# Altium footprint library FootprintsStd.PcbLib: 32 footprints (part 1 of 2)
Each footprint in its own frame and in the unit in brackets; x right, y up, seen from the top. Pads: shape width x height; smd on the part's side, far side on the other; paste and mask are expansions set on the pad; w line width, h text height; cw(c..) or ccw(c..) is an arc to the next point about the centre after c.
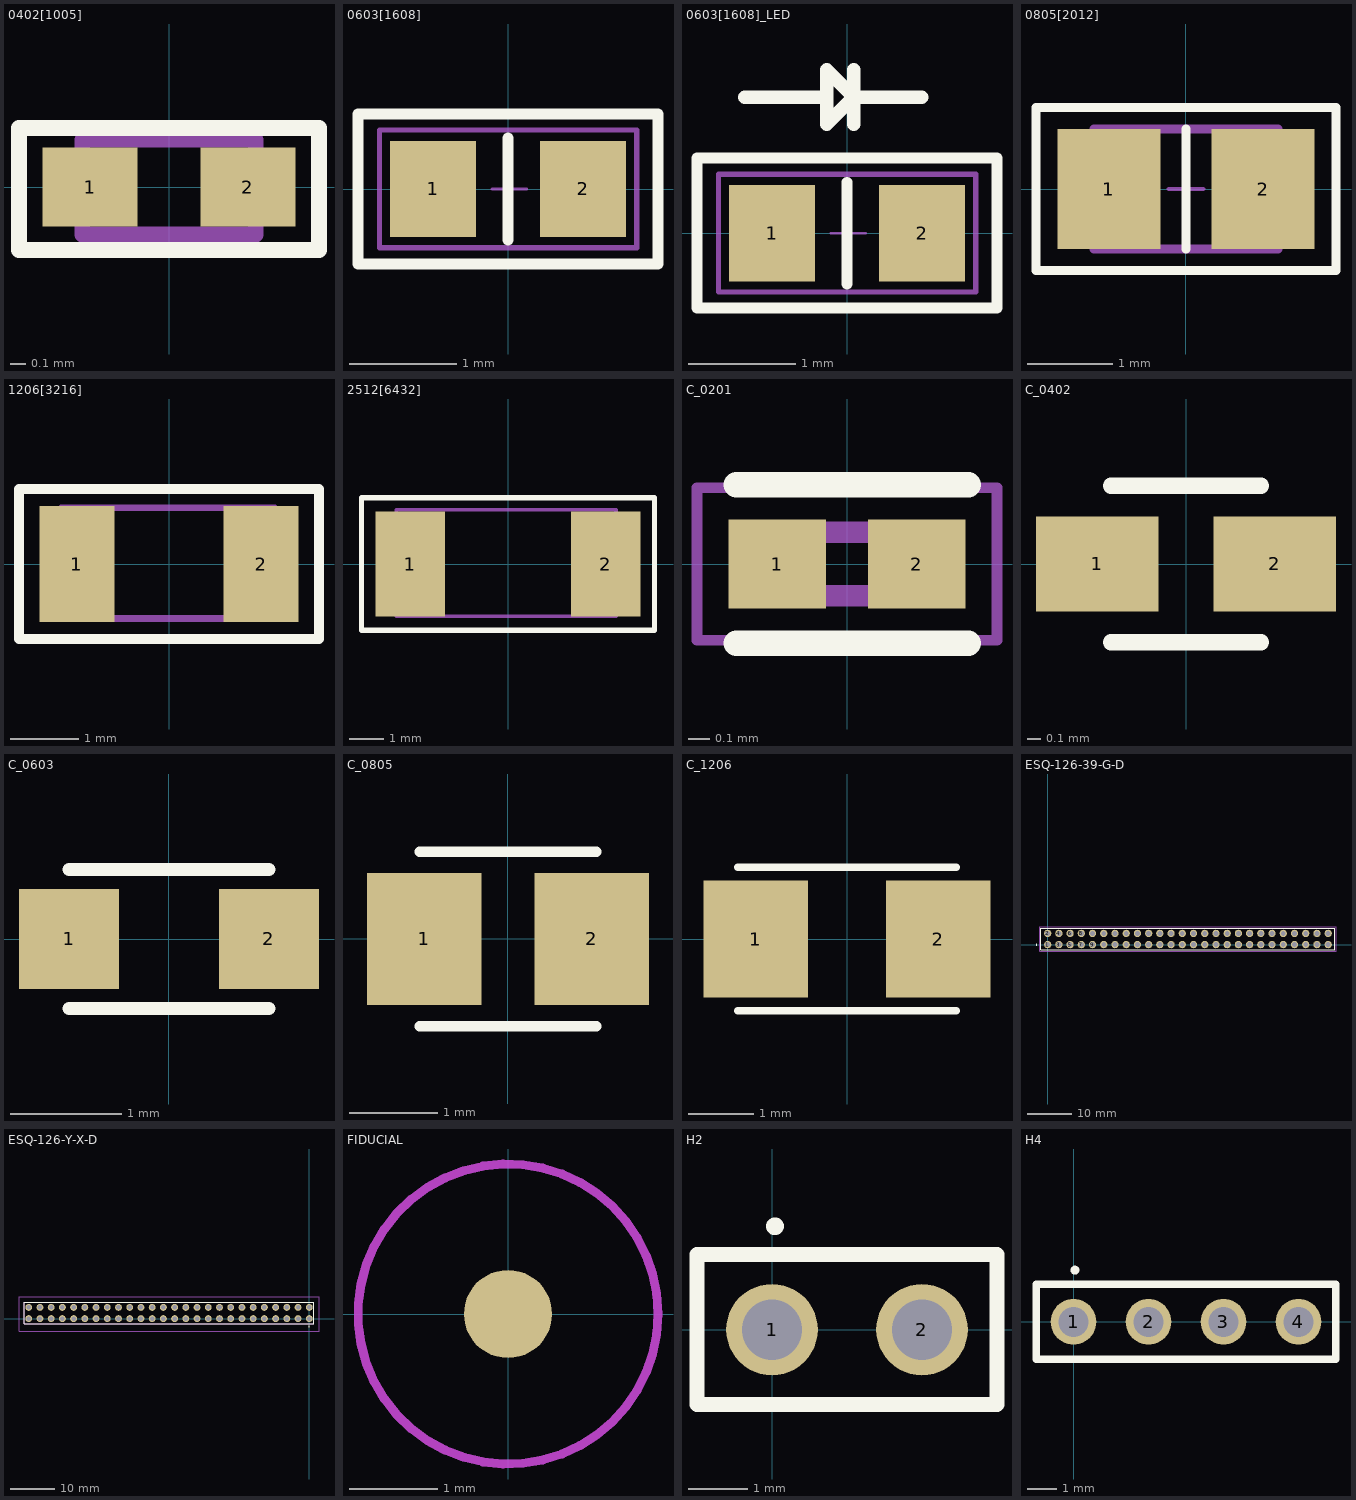
[diagram p0: the footprints below, top view; thin cyan lines are the x and y axes]

## 0402[1005] [mm] "Chip Capacitor, Body 1.0x0.5mm, IPC High Density"
height 1.3
pads (2):
  rect 0.6x0.5 smd: 1(-0.5,0) 2(0.5,0)
Top Overlay:
  lines w0.102: -0.95,-0.4 0.95,-0.4 0.95,0.375 -0.95,0.375 -0.95,-0.4
Mechanical 1:
  lines w0.1: -0.55,-0.3 -0.55,0.3 0.55,0.3 0.55,-0.3 -0.55,-0.3
3D body "RES0402.stp": height 0.3, standoff 0, extent -0.5,-0.25 0.5,0.25

## 0603[1608] [mm] "Chip Capacitor, Body 1.6x0.8mm, IPC High Density"
height 1.3
pads (2):
  rect 0.8x0.9 smd: 1(-0.7,0) 2(0.7,0)
Top Overlay:
  lines w0.102: 0,-0.475 0,0.475 ; -1.4,-0.7 1.4,-0.7 1.4,0.7 -1.4,0.7 -1.4,-0.7
Mechanical 1:
  lines w0.025: -0.15,0 0.175,0 ; 0,-0.2 0,0.2
  lines w0.05: -1.2,-0.55 -1.2,0.55 1.2,0.55 1.2,-0.55 -1.2,-0.55
3D body "RES0603.stp": height 0.45, standoff 0, extent -0.787,-0.4 0.813,0.4

## 0603[1608]_LED [mm] "LED 0603 [1608]"
height 2
pads (2):
  rect 0.8x0.9 smd: 1(-0.7,0) 2(0.7,0)
Top Overlay:
  lines w0.102: 0,-0.475 0,0.475 ; -1.4,-0.7 1.4,-0.7 1.4,0.7 -1.4,0.7 -1.4,-0.7
  lines w0.127: -0.953,1.27 -0.191,1.27 ; 0.064,1.016 0.064,1.27 ; 0.191,1.27 0.064,1.27 ; 0.699,1.27 0.064,1.27 ; -0.191,1.27 -0.191,1.524 0.064,1.27 ; -0.191,1.27 -0.191,1.016 0.064,1.27 ; 0.064,1.27 0.064,1.524 0.064,1.27
Mechanical 1:
  lines w0.025: -0.15,0 0.175,0 ; 0,-0.2 0,0.2
  lines w0.05: -1.2,-0.55 -1.2,0.55 1.2,0.55 1.2,-0.55 -1.2,-0.55
3D body "APT1608.sldprt": height 0.75, standoff 0, extent -0.788,-0.4 0.823,0.4

## 0805[2012] [mm] "Chip Resistor, Body 2.0x1.2mm, IPC Medium Density"
height 0.7
pads (2):
  rect 1.2x1.4 smd: 1(-0.9,0) 2(0.9,0)
Top Overlay:
  lines w0.102: 0,-0.7 0,0.7 ; -1.75,-0.95 1.75,-0.95 1.75,0.95 -1.75,0.95 -1.75,-0.95
Mechanical 1:
  lines w0.051: -0.2,0 0.2,0 ; 0,-0.2 0,0.2
  lines w0.1: -1.075,-0.7 1.075,-0.7 1.075,0.7 -1.075,0.7 -1.075,-0.7
3D body "RES0805.stp": height 0.5, standoff 0, extent -1,-0.63 1,0.62

## 1206[3216] [mm] "Chip Capacitor, Body 3.2x1.6mm, IPC High Density"
height 1.3
pads (2):
  rect 1.1x1.7 smd: 1(-1.35,0) 2(1.35,0)
Top Overlay:
  lines w0.152: -2.2,-1.1 -0.4,-1.1 2.2,-1.1 2.2,1.1 -2.2,1.1 -2.2,-1.1
Mechanical 13:
  lines w0.1: -1.575,-0.8 -1.575,0.825 1.55,0.825 1.55,-0.8 -1.575,-0.8
3D body "RES1206.stp": height 0.55, standoff 0, extent -1.55,-0.772 1.55,0.78

## 2512[6432] [mm] "Chip Capacitor, Body 2.54x1.27mm, IPC High Density"
height 1.3
pads (2):
  rect 2x3 smd: 1(-2.8,0) 2(2.8,0)
Top Overlay:
  lines w0.152: -4.2,-1.9 -4.2,1.9 4.2,1.9 4.2,-1.9 -4.2,-1.9
Mechanical 1:
  lines w0.1: -3.2,-1.5 3.1,-1.5 3.1,1.55 -3.2,1.55 -3.2,-1.5
3D body "RES2512.stp": height 0.55, standoff 0, extent -3.15,-1.55 3.15,1.55

## C_0201 [mm] "Capacitor 0201"
pads (2):
  rect 0.46x0.42 smd: 1(-0.33,0) 2(0.33,0)
Top Overlay:
  lines w0.12: -0.525,-0.375 0.575,-0.375 ; -0.525,0.375 0.575,0.375
Mechanical 13:
  lines w0.1: -0.3,-0.15 -0.3,0.15 0.3,0.15 0.3,-0.15 -0.3,-0.15
Mechanical 15:
  lines w0.05: -0.71,-0.36 0.71,-0.36 0.71,0.36 -0.71,0.36 -0.71,-0.36
3D body "GRM033R71E102KA01D.stp": height 0.33, standoff 0, extent -0.3,-0.15 0.3,0.15

## C_0402 [mm] "Capacitor 0402"
pads (2):
  rect 0.9x0.7 smd: 1(-0.65,0) 2(0.65,0)
Top Overlay:
  lines w0.12: -0.55,-0.575 0.55,-0.575 ; -0.55,0.575 0.55,0.575
3D body "C0402-1.step": height 0.5, standoff 0, extent -0.498,-0.25 0.498,0.25

## C_0603 [mm] "Capacitor 0603"
pads (2):
  rect 0.9x0.9 smd: 1(-0.9,0) 2(0.9,0)
Top Overlay:
  lines w0.12: -0.9,-0.625 0.9,-0.625 ; -0.9,0.625 0.9,0.625
3D body "U-ser Library-CAPC1608X09.step": height 0.9, standoff 0, extent -0.8,-0.4 0.8,0.4

## C_0805 [mm]
pads (2):
  rect 1.3x1.5 smd: 1(-0.95,0) 2(0.95,0)
Top Overlay:
  lines w0.12: -1,-0.99 1,-0.99 ; -1,0.99 1,0.99
3D body "User Library-Chip Cap_MLCC_0805 (2012)_A.step": height 0.6, standoff 0, extent -1,-0.635 1,0.615

## C_1206 [mm]
pads (2):
  rect 1.6x1.8 smd: 1(-1.4,0) 2(1.4,0)
Top Overlay:
  lines w0.12: -1.675,-1.1 1.675,-1.1 ; -1.675,1.1 1.675,1.1
3D body "1206 SMD Capacitor.step": height 1, standoff 0, extent -1.6,-0.8 1.6,0.8

## ESQ-126-39-G-D [mm]
pads (52):
  round 1.65 hole 1.1: 1(0,0) 2(0,2.54) 3(2.54,0) 4(2.54,2.54) 5(5.08,0) 6(5.08,2.54) 7(7.62,0) 8(7.62,2.54) 9(10.16,0) 10(10.16,2.54) 11(12.7,0) 12(12.7,2.54) 13(15.24,0) 14(15.24,2.54) 15(17.78,0) 16(17.78,2.54) 17(20.32,0) 18(20.32,2.54) 19(22.86,0) 20(22.86,2.54) 21(25.4,0) 22(25.4,2.54) 23(27.94,0) 24(27.94,2.54) 25(30.48,0) 26(30.48,2.54) 27(33.02,0) 28(33.02,2.54) 29(35.56,0) 30(35.56,2.54) 31(38.1,0) 32(38.1,2.54) 33(40.64,0) 34(40.64,2.54) 35(43.18,0) 36(43.18,2.54) 37(45.72,0) 38(45.72,2.54) 39(48.26,0) 40(48.26,2.54) 41(50.8,0) 42(50.8,2.54) 43(53.34,0) 44(53.34,2.54) 45(55.88,0) 46(55.88,2.54) 47(58.42,0) 48(58.42,2.54) 49(60.96,0) 50(60.96,2.54) 51(63.5,0) 52(63.5,2.54)
Top Overlay:
  circle w0.2: c-2.54,0 r0.1
  lines w0.127: -1.525,-1.206 65.025,-1.205 ; -1.525,-1.206 -1.525,3.745 ; -1.525,-1.206 65.025,-1.205 ; -1.525,-1.206 -1.525,3.745 ; -1.525,3.745 65.025,3.745 ; -1.525,3.745 65.025,3.745 ; 65.025,-1.205 65.025,3.745 ; 65.025,-1.205 65.025,3.745
Bottom Overlay:
  lines w0.127: -1.525,-1.205 -1.525,3.745 65.025,3.745 65.025,-1.205 -1.525,-1.205
Mechanical 16:
  lines w0.05: -1.775,-1.455 -1.775,3.995 65.275,3.995 65.275,-1.455 -1.775,-1.455
3D body "ESQ-126-39-G-D.stp": height 17.02, standoff -6.22, extent -1.524,-1.27 65.024,3.81

## ESQ-126-Y-X-D [mm]
pads (52):
  round 1.55 hole 1.02: 1(0,0) 2(0,2.54) 3(-2.54,0) 4(-2.54,2.54) 5(-5.08,0) 6(-5.08,2.54) 7(-7.62,0) 8(-7.62,2.54) 9(-10.16,0) 10(-10.16,2.54) 11(-12.7,0) 12(-12.7,2.54) 13(-15.24,0) 14(-15.24,2.54) 15(-17.78,0) 16(-17.78,2.54) 17(-20.32,0) 18(-20.32,2.54) 19(-22.86,0) 20(-22.86,2.54) 21(-25.4,0) 22(-25.4,2.54) 23(-27.94,0) 24(-27.94,2.54) 25(-30.48,0) 26(-30.48,2.54) 27(-33.02,0) 28(-33.02,2.54) 29(-35.56,0) 30(-35.56,2.54) 31(-38.1,0) 32(-38.1,2.54) 33(-40.64,0) 34(-40.64,2.54) 35(-43.18,0) 36(-43.18,2.54) 37(-45.72,0) 38(-45.72,2.54) 39(-48.26,0) 40(-48.26,2.54) 41(-50.8,0) 42(-50.8,2.54) 43(-53.34,0) 44(-53.34,2.54) 45(-55.88,0) 46(-55.88,2.54) 47(-58.42,0) 48(-58.42,2.54) 49(-60.96,0) 50(-60.96,2.54) 51(-63.5,0) 52(-63.5,2.54)
Top Overlay:
  circle w0.2: c-0.05,-1.75 r0.05
  lines w0.1: -64.5,-1.205 1,-1.205 1,3.745 -64.5,3.745 -64.5,-1.205
Mechanical 13:
  lines w0.2: -64.5,-1.205 1,-1.205 1,3.745 -64.5,3.745 -64.5,-1.205
Mechanical 15:
  lines w0.05: -65.7,-2.85 2.2,-2.85 2.2,4.945 -65.7,4.945 -65.7,-2.85
3D body "ESQ-126-39-G-D.stp": height 11.06, standoff -12.18, extent -64.974,-1.299 1.574,3.781

## FIDUCIAL [mm] "FIDUCIAL"
pads (1):
  round 1 smd mask+1: ""(0,0)
Top Layer keep-out:
  circle w0.1: c0,0 r1.7
Mechanical 1:
  circle w0.1: c0,0 r1.7

## H2 [mm] "Header 2-Pin"
pads (2):
  round 1.55 hole 1.02: 1(0,0) 2(2.54,0)
Top Overlay:
  circle w0.2: c0.05,1.75 r0.05
  lines w0.254: -1.27,-1.27 3.81,-1.27 3.81,1.27 -1.27,1.27 -1.27,-1.27

## H4 [mm] "Header 4-Pin"
pads (4):
  round 1.55 hole 1.02: 1(0,0) 2(2.54,0) 3(5.08,0) 4(7.62,0)
Top Overlay:
  circle w0.2: c0.05,1.75 r0.05
  lines w0.254: -1.27,-1.27 8.89,-1.27 8.89,1.27 -1.27,1.27 -1.27,-1.27